# EAGLE library part CONN_SDREAD_FCI_10067847 (library WCSMain)
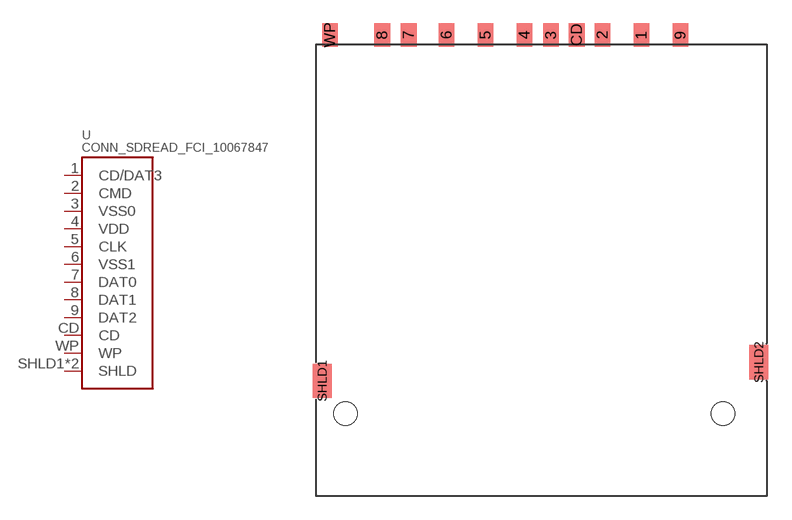
[diagram p19: symbol with the pads of CONN_SD_FCI_10067847; footprint CONN_SD_FCI_10067847]

Designator prefix -

## CONN_SDREAD_FCI_10067847  [CONN_SD_FCI_10067847]
1  CD/DAT3  pas
2  CMD  pas
3  VSS0  pas
4  VDD  pas
5  CLK  pas
6  VSS1  pas
7  DAT0  pas
8  DAT1  pas
9  DAT2  pas
CD  CD  pas
SHLD1  SHLD  pas
SHLD2  SHLD  pas
WP  WP  pas

## Footprint CONN_SD_FCI_10067847 (pad centres in mm)
smd 1 x 1.5: 1 6.875,24.3; 2 4.375,24.3; 3 1.075,24.3; 4 -0.625,24.3; 5 -3.125,24.3; 6 -5.625,24.3; 7 -8.05,24.3; 8 -9.75,24.3; 9 9.375,24.3; CD 2.725,24.3; WP -13.1,24.3
smd 1.2 x 2.2: SHLD1 -13.6,2.1; SHLD2 14.4,3.3
hole 1.5 at -12.1,0
hole 1.5 at 12.1,0